# Altium footprint library Crops_Predictor.PcbLib: 7 footprints
Each footprint in its own frame and in the unit in brackets; x right, y up, seen from the top. Pads: shape width x height; smd on the part's side, far side on the other; paste and mask are expansions set on the pad; w line width, h text height; cw(c..) or ccw(c..) is an arc to the next point about the centre after c.
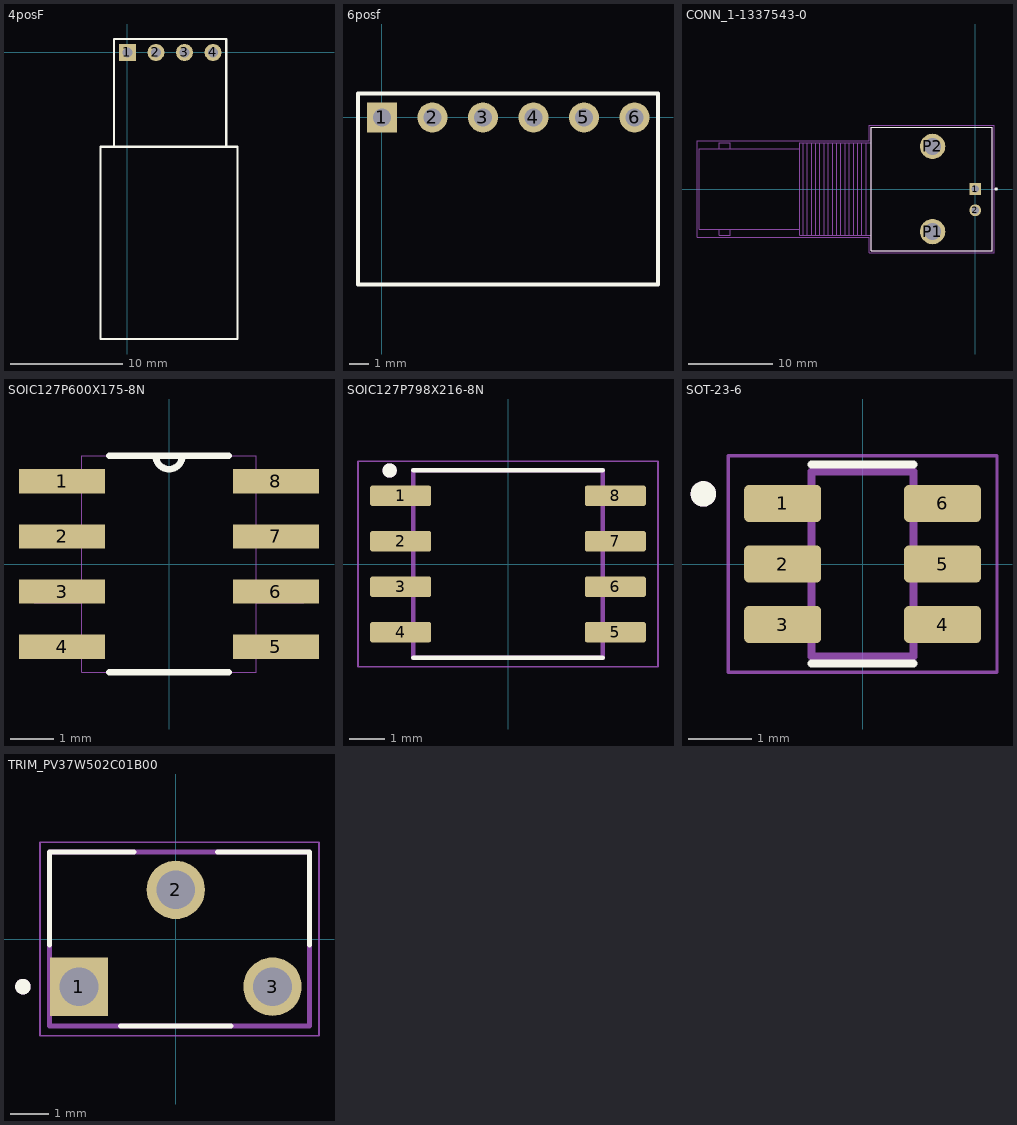
[diagram p0: the footprints below, top view; thin cyan lines are the x and y axes]

## 4posF [mm]
pads (4):
  rect 1.508x1.508 hole 0.9: 1(0,0)
  round 1.508 hole 0.9: 2(2.54,0) 3(5.08,0) 4(7.62,0)
Top Overlay:
  lines w0.2: -1.2,-8.4 -1.2,-1.1 -1.2,1.2 8.8,1.2 8.8,-0.4 8.8,-8.4 ; -1.2,-8.4 8.8,-8.4 ; -1.2,-8.4 -2.4,-8.4 -2.4,-25.5 9.8,-25.5 9.8,-8.4 8.8,-8.4
3D body "User Library-DHT11.STEP": height 5.5, standoff 0, extent -2.3,-25.55 9.7,-2.05
3D body "awa_127-04_z-hp.stp": height 4.07, standoff -1.67, extent -1.28,-8.3 8.88,0.3

## 6posf [mm]
pads (6):
  rect 1.508x1.508 hole 0.9: 1(0,0)
  round 1.508 hole 0.9: 2(2.54,0) 3(5.08,0) 4(7.62,0) 5(10.16,0) 6(12.7,0)
Top Overlay:
  lines w0.2: -1.2,-8.4 13.88,-8.4 13.88,-0.4 13.88,1.2 -1.2,1.2 -1.2,-1.1 -1.2,-8.4
3D body "awa_127-06_z-hp.stp": height 3.27, standoff -2.47, extent -1.24,-8.3 14,0.3
3D body "User Library-hc05.STEP": height 2.4, standoff -3.5, extent -1.6,-47.8 14.5,-5.2

## CONN_1-1337543-0 [mm]
pads (4):
  rect 1.398x1.398 hole 0.89: 1(0,0)
  round 1.398 hole 0.89: 2(0,-2.54)
  round 3.015 hole 2.01: P1(-5.08,-5.08) P2(-5.08,5.08)
Top Overlay:
  circle w0.2: c2.492,0 r0.1
  lines w0.127: -12.38,-7.35 -12.38,-5.5 -12.38,5.5 -12.38,7.35 2.02,7.35 2.02,-7.35 -12.38,-7.35
Mechanical 13:
  lines w0.127: -20.9,-4.8 -29.21,-4.8 ; -20.9,4.8 -29.21,4.8 ; -30.48,-4.8 -30.48,-5.5 -29.21,-5.5 -29.21,-4.8 ; -30.48,-4.8 -29.21,-4.8 ; -30.48,-4.8 -32.9,-4.8 -32.9,4.8 -30.48,4.8 ; -30.48,4.8 -30.48,5.5 -29.21,5.5 -29.21,4.8 ; -30.48,4.8 -29.21,4.8 ; -20.5,-5.5 -20.5,5.5 ; -20.5,-5.5 -20,-5.5 ; -20.5,-5.5 -20.9,-5.5 -20.9,5.5 -20.5,5.5 ; -20.5,5.5 -20,5.5 ; -20,-5.5 -20,5.5 ; -20,-5.5 -19.5,-5.5 ; -20,5.5 -19.5,5.5 ; -19.5,-5.5 -19.5,5.5 ; -19.5,-5.5 -19,-5.5 ; -19.5,5.5 -19,5.5 ; -19,-5.5 -19,5.5 ; -19,-5.5 -18.5,-5.5 ; -19,5.5 -18.5,5.5 ; -18.5,-5.5 -18.5,5.5 ; -18.5,-5.5 -18,-5.5 ; -18.5,5.5 -18,5.5 ; -18,-5.5 -18,5.5 ; -18,-5.5 -17.5,-5.5 ; -18,5.5 -17.5,5.5 ; -17.5,-5.5 -17.5,5.5 ; -17.5,-5.5 -17,-5.5 ; -17.5,5.5 -17,5.5 ; -17,-5.5 -17,5.5 ; -17,-5.5 -16.5,-5.5 ; -17,5.5 -16.5,5.5 ; -16.5,-5.5 -16.5,5.5 ; -16.5,-5.5 -16,-5.5 ; -16.5,5.5 -16,5.5 ; -16,-5.5 -16,5.5 ; -16,-5.5 -15.5,-5.5 ; -16,5.5 -15.5,5.5 ; -15.5,-5.5 -15.5,5.5 ; -15.5,-5.5 -15,-5.5 ; -15.5,5.5 -15,5.5 ; -15,-5.5 -15,5.5 ; -15,-5.5 -14.5,-5.5 ; -15,5.5 -14.5,5.5 ; -14.5,-5.5 -14.5,5.5 ; -14.5,-5.5 -14,-5.5 ; -14.5,5.5 -14,5.5 ; -14,-5.5 -14,5.5 ; -14,-5.5 -13.5,-5.5 ; -14,5.5 -13.5,5.5 ; -13.5,-5.5 -13.5,5.5 ; -13.5,-5.5 -13,-5.5 ; -13.5,5.5 -13,5.5 ; -13,-5.5 -13,5.5 ; -13,-5.5 -12.38,-5.5 ; -13,5.5 -12.38,5.5 ; -12.38,-5.5 -12.38,5.5 ; -12.38,-5.5 -12.38,-7.35 2.02,-7.35 2.02,7.35 -12.38,7.35 -12.38,5.5
Mechanical 15:
  lines w0.05: -33.15,-5.75 -33.15,5.75 -12.63,5.75 -12.63,7.6 2.27,7.6 2.27,-7.6 -12.63,-7.6 -12.63,-5.75 -33.15,-5.75
3D body "1-1337543-0.stp": height 16.15, standoff -3.95, extent -33.087,-7.366 2.413,7.334

## SOIC127P600X175-8N [mil]
pads (8):
  rect 78x22 smd: 1(-97,75) 2(-97,25) 3(-97,-25) 4(-97,-75) 5(97,-75) 6(97,-25) 7(97,25) 8(97,75)
Top Overlay:
  lines w6: -54,-98 54,-98 ; -54,98 -12,98 ; 54,98 12,98 ; -12,98 ccw(c0,98) 12,98 ; -12,98 12,98
Mechanical 13:
  lines w0: -12,98 ccw(c0,98) 12,98 ; -12,98 12,98 ; -12,98 -79,98 -79,-98 79,-98 79,98 12,98 ; -122,-85 -122,-65 -79,-65 -79,-85 -122,-85 ; -122,-35 -122,-15 -79,-15 -79,-35 -122,-35 ; -122,15 -122,35 -79,35 -79,15 -122,15 ; -122,65 -122,85 -79,85 -79,65 -122,65 ; 79,-85 79,-65 122,-65 122,-85 79,-85 ; 79,-35 79,-15 122,-15 122,-35 79,-35 ; 79,15 79,35 122,35 122,15 79,15 ; 79,65 79,85 122,85 122,65 79,65
3D body "CA3140AM.STEP": height 68.9, standoff 0, extent -118.11,-96.45 118.11,96.46

## SOIC127P798X216-8N [mm]
pads (8):
  rrect25% 1.71x0.58 smd: 1(-3,1.905) 2(-3,0.635) 3(-3,-0.635) 4(-3,-1.905) 5(3,-1.905) 6(3,-0.635) 7(3,0.635) 8(3,1.905)
Top Overlay:
  circle w0.2: c-3.308,2.612 r0.1
  lines w0.127: -2.645,-2.62 2.645,-2.62 ; -2.645,2.62 2.645,2.62
Mechanical 13:
  circle w0.2: c-3.308,2.612 r0.1
  lines w0.127: -2.645,-2.62 -2.645,2.62 2.645,2.62 2.645,-2.62 -2.645,-2.62
Mechanical 15:
  lines w0.05: -4.191,-2.87 -4.191,2.87 4.191,2.87 4.191,-2.87 -4.191,-2.87
3D body "step_temp.STEP": height 1.75, standoff 0, extent -3,-2.45 3,2.45

## SOT-23-6 [mm]
pads (6):
  rrect25% 1.21x0.58 smd: 1(-1.255,0.95) 2(-1.255,0) 3(-1.255,-0.95) 4(1.255,-0.95) 5(1.255,0) 6(1.255,0.95)
Top Overlay:
  circle w0.2: c-2.5,1.1 r0.1
  lines w0.127: -0.8,-1.56 0.8,-1.56 ; -0.8,1.56 0.8,1.56
Mechanical 13:
  circle w0.2: c-2.5,1.1 r0.1
  lines w0.127: -0.8,-1.45 0.8,-1.45 0.8,1.45 -0.8,1.45 -0.8,-1.45
Mechanical 15:
  lines w0.05: -2.11,-1.7 -2.11,1.7 2.11,1.7 2.11,-1.7 -2.11,-1.7
3D body "LTC6992CS6-1#TRMPBF.STEP": height 1, standoff 0, extent -1.4,-1.45 1.4,1.45

## TRIM_PV37W502C01B00 [mm]
height 7.75
pads (3):
  rect 1.508x1.508 hole 1: 1(-2.5,-1.23)
  round 1.508 hole 1: 2(0,1.27) 3(2.5,-1.23)
Top Overlay:
  circle w0.2: c-3.95,-1.23 r0.1
  lines w0.127: -3.26,-0.156 -3.26,2.25 -1.074,2.25 ; -1.426,-2.25 1.426,-2.25 ; 1.074,2.25 3.45,2.25 3.45,-0.156
Mechanical 13:
  circle w0.2: c-3.95,-1.23 r0.1
  lines w0.127: -3.26,-2.25 -3.26,2.25 3.45,2.25 3.45,-2.25 -3.26,-2.25
Mechanical 15:
  lines w0.05: -3.51,-2.5 3.7,-2.5 3.7,2.5 -3.51,2.5 -3.51,-2.5
3D body "step_temp.STEP": height 7.9, standoff -6, extent -3.2,-2 3.2,2